# Altium footprint library Chip Capacitor.PcbLib: 33 footprints (part 2 of 3)
Each footprint in its own frame and in the unit in brackets; x right, y up, seen from the top. Pads: shape width x height; smd on the part's side, far side on the other; paste and mask are expansions set on the pad; w line width, h text height; cw(c..) or ccw(c..) is an arc to the next point about the centre after c.
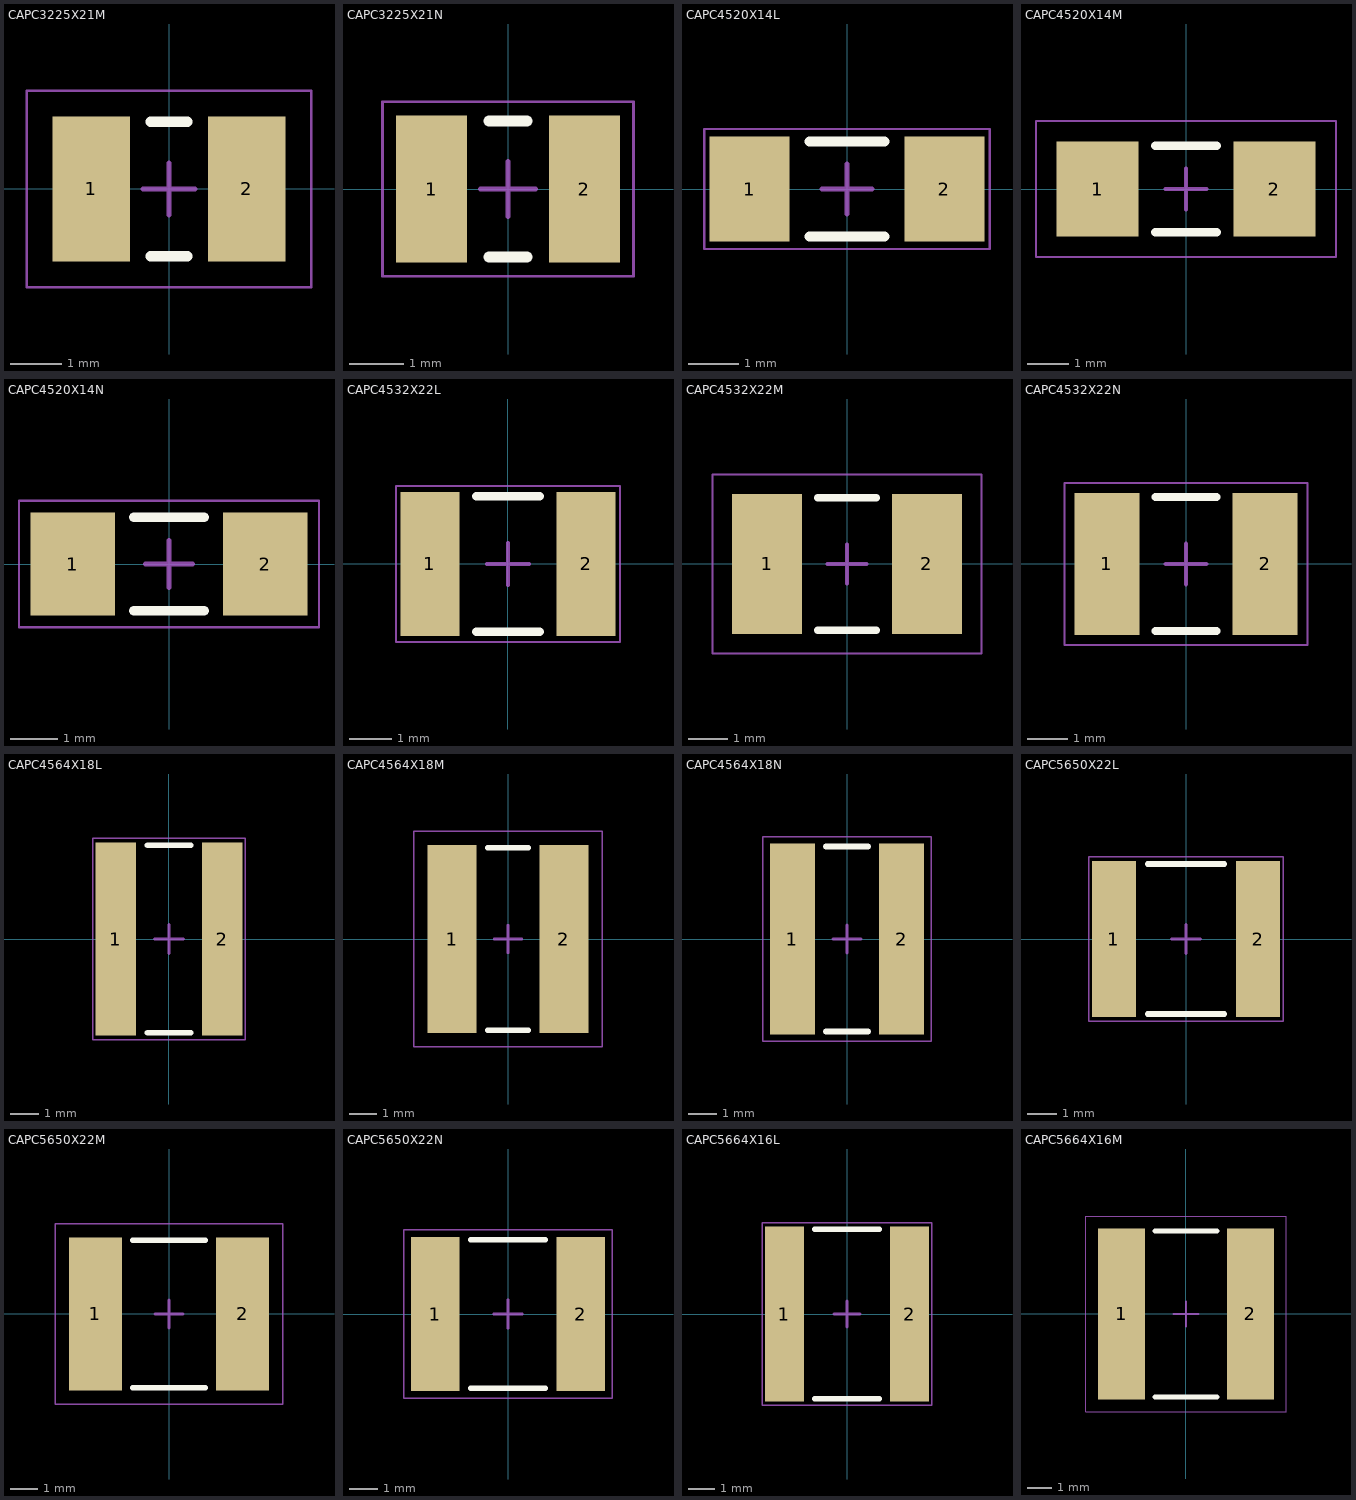
[diagram p1: the footprints below, top view; thin cyan lines are the x and y axes]

## CAPC3225X21M [mm] "Chip Capacitor, Body 3.2x2.5mm, IPC Low Density (1210 Imperial)"
height 2.05
pads (2):
  rect 1.5x2.8 smd: 1(-1.5,0) 2(1.5,0)
Top Overlay:
  lines w0.2: -0.35,-1.3 0.35,-1.3 ; -0.35,1.3 0.35,1.3
Mechanical 15:
  lines w0.05: -2.75,-1.9 -2.75,1.9 2.75,1.9 2.75,-1.9 -2.75,-1.9
  lines w0.1: -0.5,0 0.5,0 ; 0,-0.5 0,0.5
3D body "CAPC3225X21L.STEP": height 0.77, standoff -0.01, extent -1.6,-1.25 1.6,1.25

## CAPC3225X21N [mm] "Chip Capacitor, Body 3.2x2.5mm, IPC Medium Density (1210 Imperial)"
height 2.05
pads (2):
  rect 1.3x2.7 smd: 1(-1.4,0) 2(1.4,0)
Top Overlay:
  lines w0.2: -0.35,-1.25 0.35,-1.25 ; -0.35,1.25 0.35,1.25
Mechanical 15:
  lines w0.05: -2.3,-1.6 2.3,-1.6 2.3,1.6 -2.3,1.6 -2.3,-1.6
  lines w0.1: -0.5,0 0.5,0 ; 0,-0.5 0,0.5
3D body "CAPC3225X21L.STEP": height 0.77, standoff -0.01, extent -1.6,-1.25 1.6,1.25

## CAPC4520X14L [mm] "Chip Capacitor, Body 4.5x2.0mm, IPC High Density (1808 Imperial)"
height 1.4
pads (2):
  rect 1.6x2.1 smd: 1(-1.95,0) 2(1.95,0)
Top Overlay:
  lines w0.2: -0.75,-0.95 0.75,-0.95 ; -0.75,0.95 0.75,0.95
Mechanical 15:
  lines w0.05: -2.85,-1.2 2.85,-1.2 2.85,1.2 -2.85,1.2 -2.85,-1.2
  lines w0.1: -0.5,0 0.5,0 ; 0,-0.5 0,0.5
3D body "CAPC4520X14L.STEP": height 0.89, standoff -0.01, extent -2.25,-1 2.25,1

## CAPC4520X14M [mm] "Chip Capacitor, Body 4.5x2.0mm, IPC Low Density (1808 Imperial)"
height 1.4
pads (2):
  rect 2x2.3 smd: 1(-2.15,0) 2(2.15,0)
Top Overlay:
  lines w0.2: -0.75,-1.05 0.75,-1.05 ; -0.75,1.05 0.75,1.05
Mechanical 15:
  lines w0.05: -3.65,-1.65 3.65,-1.65 3.65,1.65 -3.65,1.65 -3.65,-1.65
  lines w0.1: -0.5,0 0.5,0 ; 0,-0.5 0,0.5
3D body "CAPC4520X14L.STEP": height 0.89, standoff -0.01, extent -2.25,-1 2.25,1

## CAPC4520X14N [mm] "Chip Capacitor, Body 4.5x2.0mm, IPC Medium Density (1808 Imperial)"
height 1.4
pads (2):
  rect 1.8x2.2 smd: 1(-2.05,0) 2(2.05,0)
Top Overlay:
  lines w0.2: -0.75,-1 0.75,-1 ; -0.75,1 0.75,1
Mechanical 15:
  lines w0.05: -3.2,-1.35 3.2,-1.35 3.2,1.35 -3.2,1.35 -3.2,-1.35
  lines w0.1: -0.5,0 0.5,0 ; 0,-0.5 0,0.5
3D body "CAPC4520X14L.STEP": height 0.89, standoff -0.01, extent -2.25,-1 2.25,1

## CAPC4532X22L [mm] "Chip Capacitor, Body 4.5x3.2mm, IPC High Density (1812 Imperial)"
height 2.2
pads (2):
  rect 1.4x3.4 smd: 1(-1.85,0) 2(1.85,0)
Top Overlay:
  lines w0.2: -0.75,-1.6 0.75,-1.6 ; -0.75,1.6 0.75,1.6
Mechanical 15:
  lines w0.05: -2.65,-1.85 2.65,-1.85 2.65,1.85 -2.65,1.85 -2.65,-1.85
  lines w0.1: -0.5,0 0.5,0 ; 0,-0.5 0,0.5
3D body "CAPC4532X22L.STEP": height 0.98, standoff -0.02, extent -2.25,-1.6 2.25,1.6

## CAPC4532X22M [mm] "Chip Capacitor, Body 4.5x3.2mm, IPC Low Density (1812 Imperial)"
height 2.2
pads (2):
  rect 1.8x3.6 smd: 1(-2.05,0) 2(2.05,0)
Top Overlay:
  lines w0.2: -0.75,-1.7 0.75,-1.7 ; -0.75,1.7 0.75,1.7
Mechanical 15:
  lines w0.05: -3.45,-2.3 3.45,-2.3 3.45,2.3 -3.45,2.3 -3.45,-2.3
  lines w0.1: -0.5,0 0.5,0 ; 0,-0.5 0,0.5
3D body "CAPC4532X22L.STEP": height 0.98, standoff -0.02, extent -2.25,-1.6 2.25,1.6

## CAPC4532X22N [mm] "Chip Capacitor, Body 4.5x3.2mm, IPC Medium Density (1812 Imperial)"
height 2.2
pads (2):
  rect 1.6x3.5 smd: 1(-1.95,0) 2(1.95,0)
Top Overlay:
  lines w0.2: -0.75,-1.65 0.75,-1.65 ; -0.75,1.65 0.75,1.65
Mechanical 15:
  lines w0.05: -3,-2 3,-2 3,2 -3,2 -3,-2
  lines w0.1: -0.5,0 0.5,0 ; 0,-0.5 0,0.5
3D body "CAPC4532X22L.STEP": height 0.98, standoff -0.02, extent -2.25,-1.6 2.25,1.6

## CAPC4564X18L [mm] "Chip Capacitor, Body 4.5x6.4mm, IPC High Density (1825 Imperial)"
height 1.8
pads (2):
  rect 1.4x6.7 smd: 1(-1.85,0) 2(1.85,0)
Top Overlay:
  lines w0.2: -0.75,-3.25 0.75,-3.25 ; -0.75,3.25 0.75,3.25
Mechanical 15:
  lines w0.05: -2.65,-3.5 2.65,-3.5 2.65,3.5 -2.65,3.5 -2.65,-3.5
  lines w0.1: -0.5,0 0.5,0 ; 0,-0.5 0,0.5
3D body "CAPC4564X18L.STEP": height 1.12, standoff -0.03, extent -2.25,-3.2 2.25,3.2

## CAPC4564X18M [mm] "Chip Capacitor, Body 4.5x6.4mm, IPC Low Density (1825 Imperial)"
height 1.8
pads (2):
  rect 1.8x6.9 smd: 1(-2.05,0) 2(2.05,0)
Top Overlay:
  lines w0.2: -0.75,-3.35 0.75,-3.35 ; -0.75,3.35 0.75,3.35
Mechanical 15:
  lines w0.05: -3.45,-3.95 3.45,-3.95 3.45,3.95 -3.45,3.95 -3.45,-3.95
  lines w0.1: -0.5,0 0.5,0 ; 0,-0.5 0,0.5
3D body "CAPC4564X18L.STEP": height 1.12, standoff -0.03, extent -2.25,-3.2 2.25,3.2

## CAPC4564X18N [mm] "Chip Capacitor, Body 4.5x6.4mm, IPC Medium Density (1825 Imperial)"
height 1.8
pads (2):
  rect 1.6x6.8 smd: 1(-1.95,0) 2(1.95,0)
Top Overlay:
  lines w0.2: -0.75,-3.3 0.75,-3.3 ; -0.75,3.3 0.75,3.3
Mechanical 15:
  lines w0.05: -3,-3.65 3,-3.65 3,3.65 -3,3.65 -3,-3.65
  lines w0.1: -0.5,0 0.5,0 ; 0,-0.5 0,0.5
3D body "CAPC4564X18L.STEP": height 1.12, standoff -0.03, extent -2.25,-3.2 2.25,3.2

## CAPC5650X22L [mm] "Chip Capacitor, Body 5.6x5.0mm, IPC High Density (2220 Imperial)"
height 2.2
pads (2):
  rect 1.5x5.3 smd: 1(-2.45,0) 2(2.45,0)
Top Overlay:
  lines w0.2: -1.3,-2.55 1.3,-2.55 ; -1.3,2.55 1.3,2.55
Mechanical 15:
  lines w0.05: -3.3,-2.8 3.3,-2.8 3.3,2.8 -3.3,2.8 -3.3,-2.8
  lines w0.1: -0.5,0 0.5,0 ; 0,-0.5 0,0.5
3D body "CAPC5650X22L.STEP": height 0.98, standoff -0.02, extent -2.8,-2.5 2.8,2.5

## CAPC5650X22M [mm] "Chip Capacitor, Body 5.6x5.0mm, IPC Low Density (2220 Imperial)"
height 2.2
pads (2):
  rect 1.9x5.5 smd: 1(-2.65,0) 2(2.65,0)
Top Overlay:
  lines w0.2: -1.3,-2.65 1.3,-2.65 ; -1.3,2.65 1.3,2.65
Mechanical 15:
  lines w0.05: -4.1,-3.25 4.1,-3.25 4.1,3.25 -4.1,3.25 -4.1,-3.25
  lines w0.1: -0.5,0 0.5,0 ; 0,-0.5 0,0.5
3D body "CAPC5650X22L.STEP": height 0.98, standoff -0.02, extent -2.8,-2.5 2.8,2.5

## CAPC5650X22N [mm] "Chip Capacitor, Body 5.6x5.0mm, IPC Medium Density (2220 Imperial)"
height 2.2
pads (2):
  rect 1.7x5.4 smd: 1(-2.55,0) 2(2.55,0)
Top Overlay:
  lines w0.2: -1.3,-2.6 1.3,-2.6 ; -1.3,2.6 1.3,2.6
Mechanical 15:
  lines w0.05: -3.65,-2.95 3.65,-2.95 3.65,2.95 -3.65,2.95 -3.65,-2.95
  lines w0.1: -0.5,0 0.5,0 ; 0,-0.5 0,0.5
3D body "CAPC5650X22L.STEP": height 0.98, standoff -0.02, extent -2.8,-2.5 2.8,2.5

## CAPC5664X16L [mm] "Chip Capacitor, Body 5.6x6.4mm, IPC High Density (2225 Imperial)"
height 1.55
pads (2):
  rect 1.5x6.7 smd: 1(-2.4,0) 2(2.4,0)
Top Overlay:
  lines w0.2: -1.25,-3.25 1.25,-3.25 ; -1.25,3.25 1.25,3.25
Mechanical 15:
  lines w0.05: -3.25,-3.5 -3.25,3.5 3.25,3.5 3.25,-3.5 -3.25,-3.5
  lines w0.1: -0.5,0 0.5,0 ; 0,-0.5 0,0.5
3D body "CAPC5664X16L.STEP": height 1, standoff 0, extent -2.8,-3.15 2.8,3.15

## CAPC5664X16M [mm] "Chip Capacitor, Body 5.6x6.4mm, IPC Low High Density (2225 Imperial)"
height 1.55
pads (2):
  rect 1.9x6.9 smd: 1(-2.6,0) 2(2.6,0)
Top Overlay:
  lines w0.2: -1.25,-3.35 1.25,-3.35 ; -1.25,3.35 1.25,3.35
Mechanical 15:
  lines w0.05: -4.05,-3.95 -4.05,3.95 4.05,3.95 4.05,-3.95 -4.05,-3.95
  lines w0.1: -0.5,0 0.5,0 ; 0,-0.5 0,0.5
3D body "CAPC5664X16L.STEP": height 1, standoff 0, extent -2.8,-3.15 2.8,3.15